# Altium footprint library smart-clock-pcblib.PcbLib: 5 footprints
Each footprint in its own frame and in the unit in brackets; x right, y up, seen from the top. Pads: shape width x height; smd on the part's side, far side on the other; paste and mask are expansions set on the pad; w line width, h text height; cw(c..) or ccw(c..) is an arc to the next point about the centre after c.
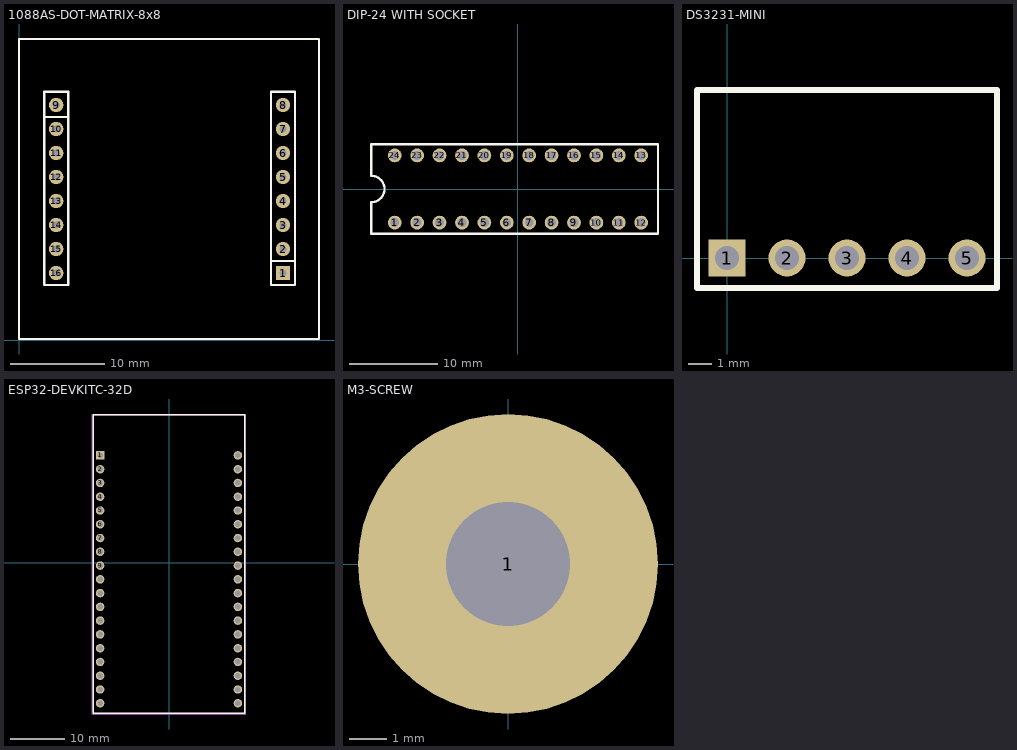
[diagram p0: the footprints below, top view; thin cyan lines are the x and y axes]

## 1088AS-DOT-MATRIX-8x8 [mil] "8x8 DOT MATRIX DISPLAY"
pads (16):
  rect 60x60 hole 30: 1(1100,280)
  round 60 hole 30: 2(1100,380) 3(1100,480) 4(1100,580) 5(1100,680) 6(1100,780) 7(1100,880) 8(1100,980) 9(155,980) 10(155,880) 11(155,780) 12(155,680) 13(155,580) 14(155,480) 15(155,380) 16(155,280)
Top Overlay:
  lines w10: 105,930 205,930 ; 1050,330 1145,330 ; 0,5 1250,5 1250,1255 0,1255 0,5 ; 105,230 205,230 205,1035 105,1035 105,230 ; 1050,230 1150,230 1150,1035 1050,1035 1050,230
3D body "8x8 LED Dot Matrix Display Module.step": height 396.54, standoff -124.33, extent 0,4.02 1252.36,1255.98

## DIP-24 WITH SOCKET [mm] "DIP-24 PACKAGE WITH SOCKET"
pads (24):
  round 1.56 hole 1: 1(-13.97,-3.81) 2(-11.43,-3.81) 3(-8.89,-3.81) 4(-6.35,-3.81) 5(-3.81,-3.81) 6(-1.27,-3.81) 7(1.27,-3.81) 8(3.81,-3.81) 9(6.35,-3.81) 10(8.89,-3.81) 11(11.43,-3.81) 12(13.97,-3.81) 13(13.97,3.81) 14(11.43,3.81) 15(8.89,3.81) 16(6.35,3.81) 17(3.81,3.81) 18(1.27,3.81) 19(-1.27,3.81) 20(-3.81,3.81) 21(-6.35,3.81) 22(-8.89,3.81) 23(-11.43,3.81) 24(-13.97,3.81)
Top Overlay:
  lines w0.254: -16.637,-5.08 -16.637,-1.5 ccw(c-16.637,0) -16.637,1.5 -16.637,5.08 15.875,5.08 15.875,-5.08 -14.986,-5.08 -16.637,-5.08
3D body "MAX7219.step": height 9.29, standoff -3.12, extent -16.637,-5.08 15.875,5.08

## DS3231-MINI [mm] "DS3231-MINI"
pads (5):
  rect 1.56x1.56 hole 1: 1(0,0)
  round 1.56 hole 1: 2(2.54,0) 3(5.08,0) 4(7.62,0) 5(10.16,0)
Top Overlay:
  lines w0.254: -1.27,-1.27 11.43,-1.27 11.43,7.112 -1.27,7.112 -1.27,-1.27
3D body "DS3231 Mini.step": height 15.29, standoff -8.86, extent -1.275,-0.335 11.435,7.031

## ESP32-DEVKITC-32D [mm] "ESP32-DEVKITC-32D"
pads (38):
  rect 1.56x1.56 hole 1: 1(-12.7,19.76)
  round 1.56 hole 1: 2(-12.7,17.22) 3(-12.7,14.68) 4(-12.7,12.14) 5(-12.7,9.6) 6(-12.7,7.06) 7(-12.7,4.52) 8(-12.7,1.98) 9(-12.7,-0.56) 10(-12.7,-3.1) 11(-12.7,-5.64) 12(-12.7,-8.18) 13(-12.7,-10.72) 14(-12.7,-13.26) 15(-12.7,-15.8) 16(-12.7,-18.34) 17(-12.7,-20.88) 18(-12.7,-23.42) 19(-12.7,-25.96) 20(12.7,19.76) 21(12.7,17.22) 22(12.7,14.68) 23(12.7,12.14) 24(12.7,9.6) 25(12.7,7.06) 26(12.7,4.52) 27(12.7,1.98) 28(12.7,-0.56) 29(12.7,-3.1) 30(12.7,-5.64) 31(12.7,-8.18) 32(12.7,-10.72) 33(12.7,-13.26) 34(12.7,-15.8) 35(12.7,-18.34) 36(12.7,-20.88) 37(12.7,-23.42) 38(12.7,-25.96)
Top Overlay:
  lines w0.254: -13.95,-27.813 -13.95,27.305 13.95,27.305 13.95,-27.813 -13.95,-27.813
Mechanical 13:
  lines w0.127: -13.95,27.305 -13.95,-27.813 13.95,-27.813 13.95,27.305
  lines w0.2: -13.95,27.305 13.95,27.305
Mechanical 15:
  lines w0.05: -14.2,-27.94 14.2,-27.94 14.2,27.4 -14.2,27.4 -14.2,-27.94
3D body "ESP32-DEVKITC-32D.STEP": height 6.81, standoff -5.88, extent -13.97,-27.848 13.97,27.252

## M3-SCREW [mm] "M3 SCREW HOLE"
pads (1):
  round 8 hole 3.3: 1(0,0)
3D body "M3 Spacer Male-Female - 5mm Height x 3mm Thread.step": height -0.5, standoff -8.5, extent -3.18,-2.754 3.18,2.754
3D body "M3 Screw - 5mm.step": height 2.44, standoff -5, extent -2.95,-3.048 3.048,2.95